# EAGLE library part SN74LVC8T245 (library SN74LVC8T245)
SN74LVC8T245 8-bit dual-supply bus transceiver with configurable voltage translation and 3-state outputs
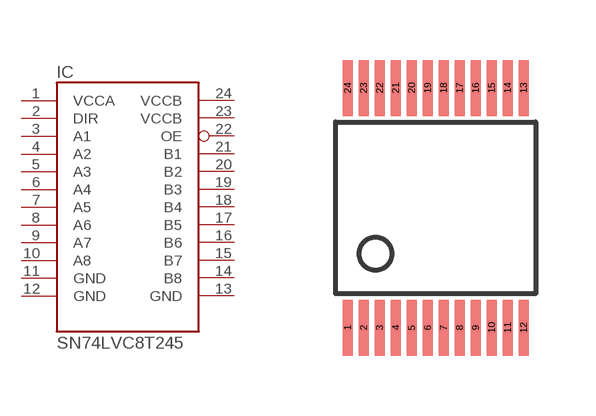
[diagram p0: symbol with the pads of TVSOP24; footprint TVSOP24]

Designator prefix IC

## SN74LVC8T245DGVR  [TVSOP24]
1  VCCA
2  DIR
3  A1
4  A2
5  A3
6  A4
7  A5
8  A6
9  A7
10  A8
11  GND
12  GND
13  GND
14  B8
15  B7
16  B6
17  B5
18  B4
19  B3
20  B2
21  B1
22  OE
23  VCCB
24  VCCB

## Footprint TVSOP24 (pad centres in mm)
TVSOP24 - DGV
smd 0.25 x 1.4: 1 -2.2,-3; 2 -1.8,-3; 3 -1.4,-3; 4 -1,-3; 5 -0.6,-3; 6 -0.2,-3; 7 0.2,-3; 8 0.6,-3; 9 1,-3; 10 1.4,-3; 11 1.8,-3; 12 2.2,-3; 13 2.2,3; 14 1.8,3; 15 1.4,3; 16 1,3; 17 0.6,3; 18 0.2,3; 19 -0.2,3; 20 -0.6,3; 21 -1,3; 22 -1.4,3; 23 -1.8,3; 24 -2.2,3